# EAGLE library part NC182M9-VS (library con-subd)
SUB-D MALE - NorComp
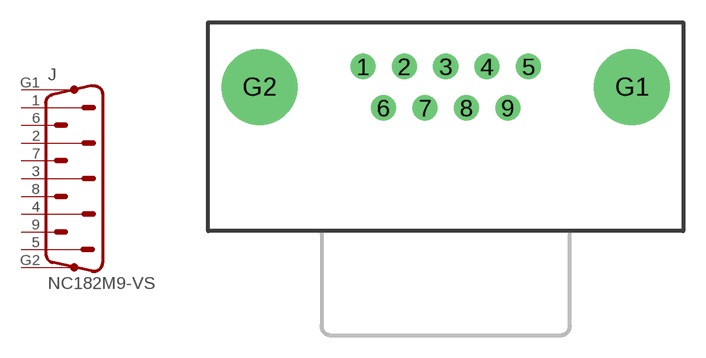
[diagram p79: symbol with the pads of NC182M9; footprint NC182M9]

Designator prefix J

## NC182M9-VS  [NC182M9]
1  1  pas
2  2  pas
3  3  pas
4  4  pas
5  5  pas
6  6  pas
7  7  pas
8  8  pas
9  9  pas
G1  G1  pas
G2  G2  pas

## Footprint NC182M9 (pad centres in mm)
NORCOMP SUB-D
drill 1.016 pad 1.676: 1 -5.537,2.769; 2 -2.769,2.769; 3 0,2.769; 4 2.769,2.769; 5 5.537,2.769; 6 -4.153,0; 7 -1.384,0; 8 1.384,0; 9 4.153,0
drill 3.251 pad 5.08: G1 12.459,1.384; G2 -12.459,1.384